# Altium schematic symbol library Schlib_connector_pinheader.SchLib: 1 symbol
Pins are listed as number, name and electrical type; pins without a type are passive.

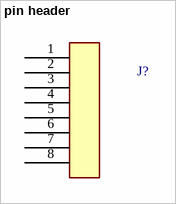
[diagram p0: symbol pin header]

## pin header
designator J?
pins: 1, 2, 3, 4, 5, 6, 7, 8